# Altium schematic symbol library EVO SCH LIB.SchLib: 9 symbols
Pins are listed as number, name and electrical type; pins without a type are passive.

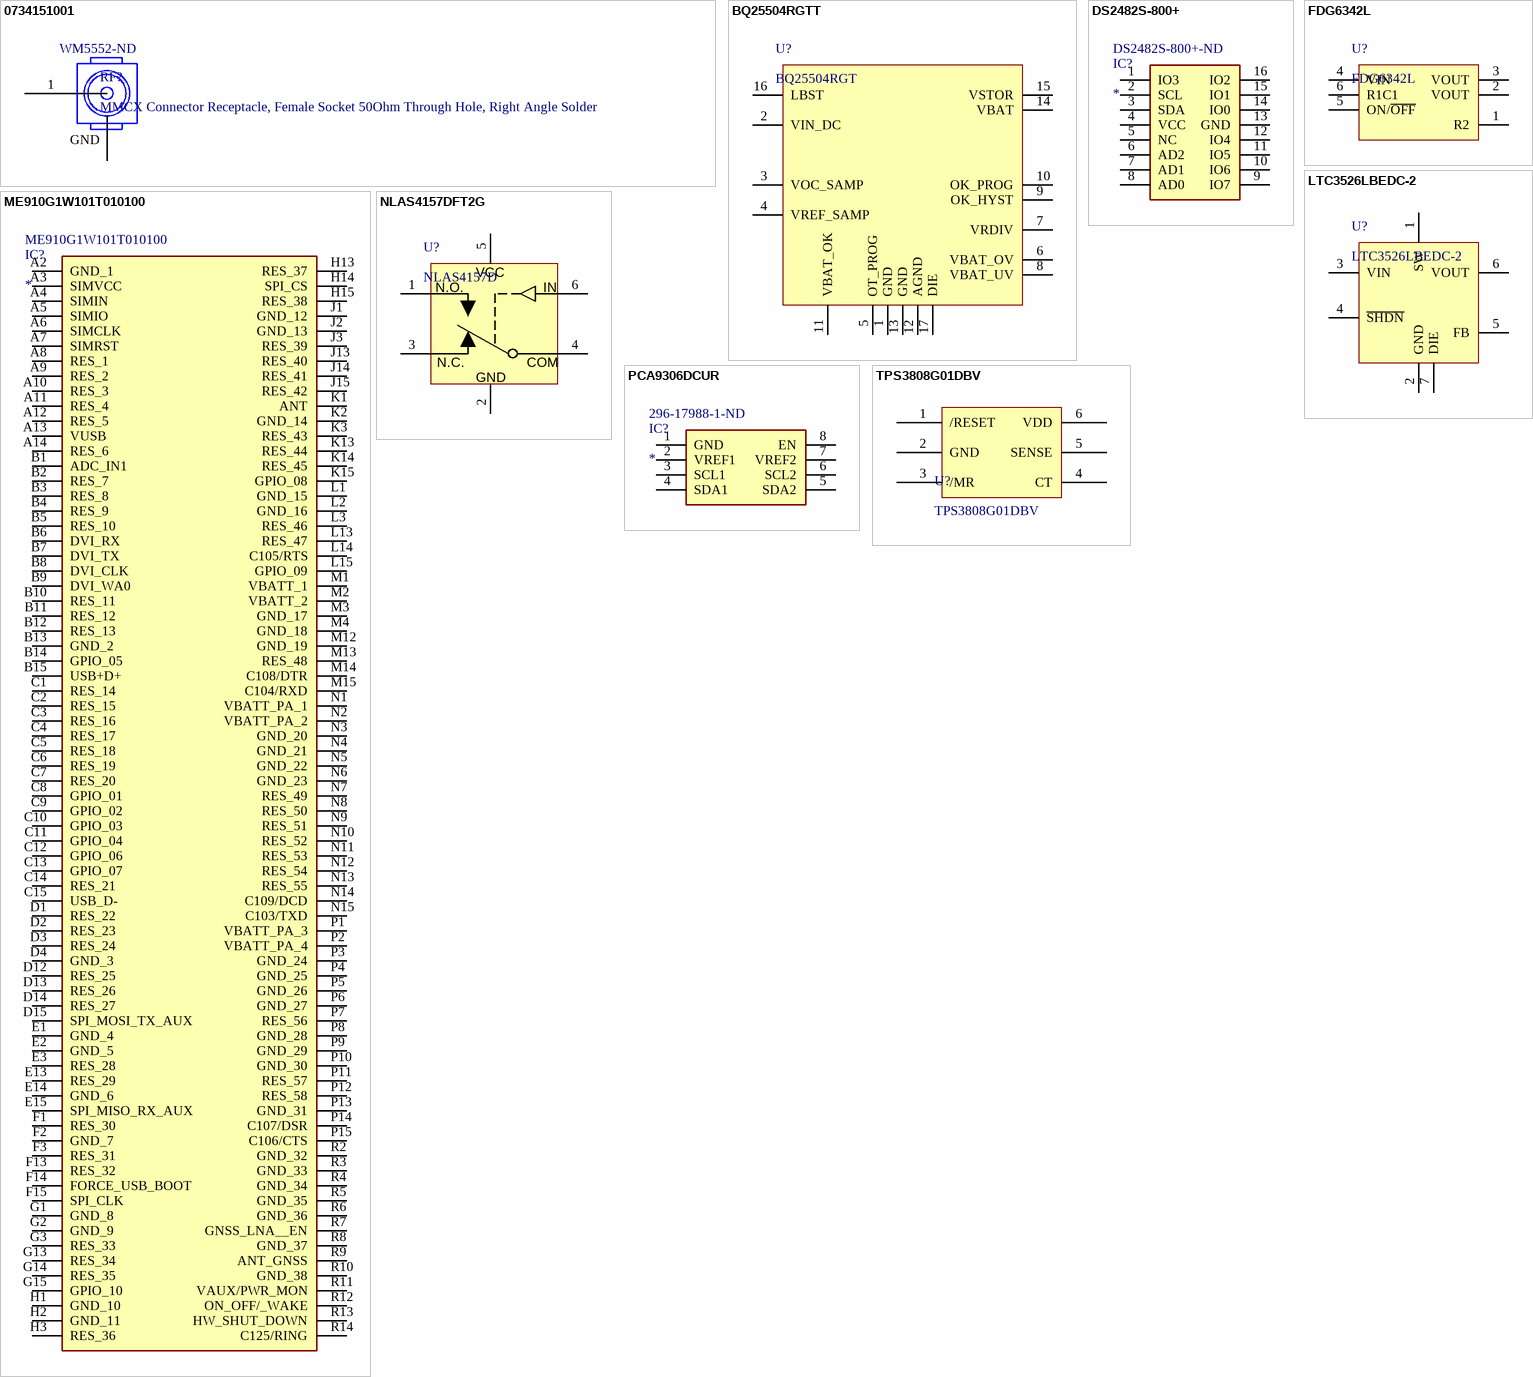
[diagram p0: symbols 0734151001 to TPS3808G01DBV]

## 0734151001
designator RF?, comment MMCX Connector Receptacle, Female Socket 50Ohm Through Hole, Right Angle Solder  Supplier Part Number 1: WM5552-ND
Supplier 1: Digi-Key
footprint 0734151001
pins: 1, 2 G, 3 G, 4 G, 5 G
text: GND

## BQ25504RGTT
designator U?, comment BQ25504RGT
IC ENERGY HARV CTRLR BATT 16QFN; Manufacturer: Texas Instruments; Manufacturer Part Number: BQ25504RGTT; Current - Supply: 330nA; Voltage - Supply: 2.5 V ~ 5.25 V; OPI_VID: 101347; Supplier 1: Digi-Key; RoHS: RoHS Compliant; Category: Integrated Circuits (ICs); Stock 1: 500; Pricing 1: 250=4.86028, 500=4.36108, 750=3.94073, 1250=3.67802, 2500=3.49412, 6250=3.36276, 12500=3.25768, 25000=3.15259 (CAD); Applications: Energy Harvesting; Operating Temperature: -40°C ~ 85°C; Mounting Type: Surface Mount; Package / Case: 16-VFQFN Exposed Pad; Supplier Device Package: 16-QFN-EP (3x3); Packaging: Tape & Reel (TR); ComponentLink1URL: http://www.ti.com/lit/ds/symlink/bq25504.pdf; ComponentLink1Description: http://www.ti.com/lit/ds/symlink/bq25504.pdf; Supplier Part Number 1: 296-29741-2-ND
footprint 16-VFQFN Exposed Pad
pins: 1 GND, 2 VIN_DC, 3 VOC_SAMP, 4 VREF_SAMP, 5 OT_PROG, 6 VBAT_OV, 7 VRDIV, 8 VBAT_UV, 9 OK_HYST, 10 OK_PROG, 11 VBAT_OK, 12 AGND, 13 GND, 14 VBAT, 15 VSTOR, 16 LBST, 17 DIE

## DS2482S-800+
designator IC?  Supplier Part Number 1: DS2482S-800+-ND
Integrated Circuit; Manufacturer_Name: Maxim Integrated; Manufacturer_Part_Number: DS2482S-800+; Datasheet Link: http://datasheets.maximintegrated.com/en/ds/DS2482-800.pdf; Height: 1.75mm; Mouser Part Number: 700-DS2482S-800; Mouser Price/Stock: https://www.mouser.co.uk/ProductDetail/Maxim-Integrated/DS2482S-800%2b?qs=0Y9aZN%252BMVCU%252BKdK3uXSFag%3D%3D; Supplier 1: Digi-Key
footprint 16-SOIC (16-SOIC (0.154", 3.90mm Width))
pins: 1 IO3, 2 SCL, 3 SDA, 4 VCC, 5 NC, 6 AD2, 7 AD1, 8 AD0, 9 IO7, 10 IO6, 11 IO5, 12 IO4, 13 GND, 14 IO0, 15 IO1, 16 IO2

## FDG6342L
designator U?
IC LOAD SWITCH INTEGRATED SC70-6; Manufacturer: Fairchild Semiconductor; Number of Outputs: 1; Rds (On): 150 mOhm; Internal Switch(s): Yes; Current Limit: 1.5A; Voltage - Input: 2.5 V ~ 8 V; OPI_VID: 101348; Supplier 1: Digi-Key; Manufacturer Part Number: FDG6342L; RoHS: RoHS Compliant; Category: Integrated Circuits (ICs); Stock 1: 24000; Pricing 1: 3000=0.13942, 6000=0.13097, 15000=0.12252, 30000=0.11238, 75000=0.10816, 150000=0.10393 (CAD); Type: High Side Switch; Operating Temperature: -55°C ~ 150°C; Mounting Type: Surface Mount; Package / Case: 6-TSSOP, SC-88, SOT-363; Supplier Device Package: SC-70-6; Packaging: Tape & Reel (TR); ComponentLink1URL: http://www.fairchildsemi.com/ds/FD/FDG6342L.pdf; ComponentLink1Description: http://www.fairchildsemi.com/ds/FD/FDG6342L.pdf; Supplier Part Number 1: FDG6342LTR-ND
footprint 6-TSSOP, SC-88, SOT-363
pins: 1 R2, 2 VOUT, 3 VOUT, 4 VIN, 5 ON/~{OFF}, 6 R1C1

## LTC3526LBEDC-2
designator U?
IC REG BOOST SYNC ADJ 0.55A 6DFN; Manufacturer: Linear Technology; Manufacturer Part Number: LTC3526LBEDC-2#TRMPBF; Output Type: Adjustable; Number of Outputs: 1; Voltage - Output: 1.5 V ~ 5.25 V; Voltage - Input: 0.5 V ~ 5.5 V; PWM Type: Current Mode, Burst Mode®; Frequency - Switching: 1MHz; Current - Output: 550mA; Synchronous Rectifier: Yes; OPI_VID: 101346; Supplier 1: Digi-Key; RoHS: RoHS Compliant; Category: Integrated Circuits (ICs); Stock 1: 500; Pricing 1: 500=2.4127 (CAD); Type: Step-Up (Boost); Operating Temperature: -40°C ~ 85°C; Mounting Type: Surface Mount; Package / Case: 6-WFDFN Exposed Pad; Packaging: Tape & Reel (TR); Supplier Device Package: 6-DFN (2x2); ComponentLink1URL: http://cds.linear.com/docs/Datasheet/3526llb2fa.pdf; ComponentLink1Description: http://cds.linear.com/docs/Datasheet/3526llb2fa.pdf; Supplier Part Number 1: LTC3526LBEDC-2#TRMPBFTR-ND
footprint 6-WFDFN Exposed Pad
pins: 1 SW, 2 GND, 3 VIN, 4 ~{SHDN}, 5 FB, 6 VOUT, 7 DIE

## ME910G1W101T010100
designator IC?  Supplier Part Number 1: ME910G1W101T010100
Integrated Circuit; Manufacturer_Name: Telit Wireless Solutions; Datasheet Link: https://y1cj3stn5fbwhv73k0ipk1eg-wpengine.netdna-ssl.com/wp-content/uploads/2021/03/Telit_ME910G1_Hardware_Design_Guide_r8.pdf; Height: 2.55mm; Manufacturer_Part_Number: ME910G1W101T010100; Arrow Part Number: ME910G1W101T010100; Arrow Price/Stock: https://www.arrow.com/en/products/me910g1w101t010100/telit; Supplier 1: Arrow Electronics
footprint ME910G1 (ME910G1-Wx CAT M1/NB2 Module)
pins: A2 GND_1, A3 SIMVCC, A4 SIMIN, A5 SIMIO, A6 SIMCLK, A7 SIMRST, A8 RES_1, A9 RES_2, A10 RES_3, A11 RES_4, A12 RES_5, A13 VUSB, A14 RES_6, B1 ADC_IN1, B2 RES_7, B3 RES_8, B4 RES_9, B5 RES_10, B6 DVI_RX, B7 DVI_TX, B8 DVI_CLK, B9 DVI_WA0, B10 RES_11, B11 RES_12, B12 RES_13, B13 GND_2, B14 GPIO_05, B15 USB+D+, C1 RES_14, C2 RES_15, C3 RES_16, C4 RES_17, C5 RES_18, C6 RES_19, C7 RES_20, C8 GPIO_01, C9 GPIO_02, C10 GPIO_03, C11 GPIO_04, C12 GPIO_06, C13 GPIO_07, C14 RES_21, C15 USB_D-, D1 RES_22, D2 RES_23, D3 RES_24, D4 GND_3, D12 RES_25, D13 RES_26, D14 RES_27, D15 SPI_MOSI_TX_AUX, E1 GND_4, E2 GND_5, E3 RES_28, E13 RES_29, E14 GND_6, E15 SPI_MISO_RX_AUX, F1 RES_30, F2 GND_7, F3 RES_31, F13 RES_32, F14 FORCE_USB_BOOT, F15 SPI_CLK, G1 GND_8, G2 GND_9, G3 RES_33, G13 RES_34, G14 RES_35, G15 GPIO_10, H1 GND_10, H2 GND_11, H3 RES_36, H13 RES_37, H14 SPI_CS, H15 RES_38, J1 GND_12, J2 GND_13, J3 RES_39, J13 RES_40, J14 RES_41, J15 RES_42, K1 ANT, K2 GND_14, K3 RES_43, K13 RES_44, K14 RES_45, K15 GPIO_08, L1 GND_15, L2 GND_16, L3 RES_46, L13 RES_47, L14 C105/RTS, L15 GPIO_09, M1 VBATT_1, M2 VBATT_2, M3 GND_17, M4 GND_18, M12 GND_19, M13 RES_48, M14 C108/DTR, M15 C104/RXD, N1 VBATT_PA_1, N2 VBATT_PA_2, N3 GND_20, N4 GND_21, N5 GND_22, N6 GND_23, N7 RES_49, N8 RES_50, N9 RES_51, N10 RES_52, N11 RES_53, N12 RES_54, N13 RES_55, N14 C109/DCD, N15 C103/TXD, P1 VBATT_PA_3, P2 VBATT_PA_4, P3 GND_24, P4 GND_25, P5 GND_26, P6 GND_27, P7 RES_56, P8 GND_28, P9 GND_29, P10 GND_30, P11 RES_57, P12 RES_58, P13 GND_31, P14 C107/DSR, P15 C106/CTS, R2 GND_32, R3 GND_33, R4 GND_34, R5 GND_35, R6 GND_36, R7 GNSS_LNA__EN, R8 GND_37, R9 ANT_GNSS, R10 GND_38, R11 VAUX/PWR_MON, R12 ON_OFF/_WAKE, R13 HW_SHUT_DOWN, R14 C125/RING

## NLAS4157DFT2G
designator U?, comment NLAS4157D
IC SWITCH SPDT SC88; Manufacturer: ON Semiconductor; Manufacturer Part Number: NLAS4157DFT2G; Circuit: 1 x SPDT; On-State Resistance: 1.15 Ohm; Voltage Supply Source: Single Supply; Voltage - Supply, Single/Dual (±): 1.65 V ~ 5.5 V; Current - Supply: 500nA; OPI_VID: 101351; Supplier 1: Digi-Key; RoHS: RoHS Compliant; Category: Integrated Circuits (ICs); Stock 1: 3000; Pricing 1: 3000=0.15291, 6000=0.14305, 15000=0.13318, 30000=0.12628, 75000=0.12332, 150000=0.11838 (CAD); Function: Switch; Operating Temperature: -40°C ~ 85°C; Mounting Type: Surface Mount; Package / Case: 6-TSSOP, SC-88, SOT-363; Supplier Device Package: SC-88; Packaging: Tape & Reel (TR); ComponentLink1URL: http://www.onsemi.com/pub_link/Collateral/NLAS4157-D.PDF; ComponentLink1Description: http://www.onsemi.com/pub_link/Collateral/NLAS4157-D.PDF; Supplier Part Number 1: NLAS4157DFT2GOSTR-ND
footprint 6-TSSOP, SC-88, SOT-363
pins: 1 NO, 2 GND, 3 NC, 4, 5, 6
text: VCC; N.O.; IN; N.C.; COM

## PCA9306DCUR
designator IC?  Supplier Part Number 1: 296-17988-1-ND
Integrated Circuit; Manufacturer_Name: Texas Instruments; Manufacturer_Part_Number: PCA9306DCUR; Datasheet Link: http://www.ti.com/lit/gpn/pca9306; Height: 0.9mm; Mouser Part Number: 595-PCA9306DCUR; Mouser Price/Stock: https://www.mouser.co.uk/ProductDetail/Texas-Instruments/PCA9306DCUR?qs=wgAEGBTxy7nQr5PRxNBUNA%3D%3D; Arrow Part Number: PCA9306DCUR; Arrow Price/Stock: https://www.arrow.com/en/products/pca9306dcur/texas-instruments; Supplier 1: Digi-Key
footprint 8-VSSOP (8-VFSOP (0.091", 2.30mm Width))
pins: 1 GND, 2 VREF1, 3 SCL1, 4 SDA1, 5 SDA2, 6 SCL2, 7 VREF2, 8 EN

## TPS3808G01DBV
designator U?
Low Quiescent Current, Programmable-Delay  Supervisory Circuit; Manufacturer: Texas Instruments; Manufacturer Part Number: TPS3808G01DBVR; Description 1: IC VOLT SUPERVISOR ADJ SOT23-6; Category 1: Integrated Circuits (ICs); Number of Voltages Monitored: 1; Output: Open Drain or Open Collector; Reset: Active Low; Reset Timeout: Adjustable/Selectable; OPI_VID: 101537; Supplier 1: Digi-Key; Supplier Part Number 1: 296-17188-1-ND; RoHS 1: RoHS Compliant; Stock 1: 20585; Pricing 1: 1=2.33, 10=2.103, 25=1.8836, 100=1.6938, 250=1.50396, 500=1.31416, 750=1.19004, 1000=0.91261 (CAD); Packaging: Cut Tape (CT); Type: Simple Reset/Power-On Reset; Voltage - Threshold: Adjustable/Selectable; Operating Temperature: -40°C ~ 125°C; Mounting Type: Surface Mount; Package / Case: SOT-23-6; Supplier Device Package: SOT-23-6; ComponentLink1URL: http://www.ti.com/lit/ds/symlink/tps3808g01.pdf; ComponentLink1Description: http://www.ti.com/lit/ds/symlink/tps3808g01.pdf
footprint SOT-23-6
pins: 1 /RESET, 2 GND, 3 /MR, 4 CT, 5 SENSE, 6 VDD